# Altium footprint library Capacitor_Ceramic_M5025_I2010.PcbLib: 1 footprints
Each footprint in its own frame and in the unit in brackets; x right, y up, seen from the top. Pads: shape width x height; smd on the part's side, far side on the other; paste and mask are expansions set on the pad; w line width, h text height; cw(c..) or ccw(c..) is an arc to the next point about the centre after c.
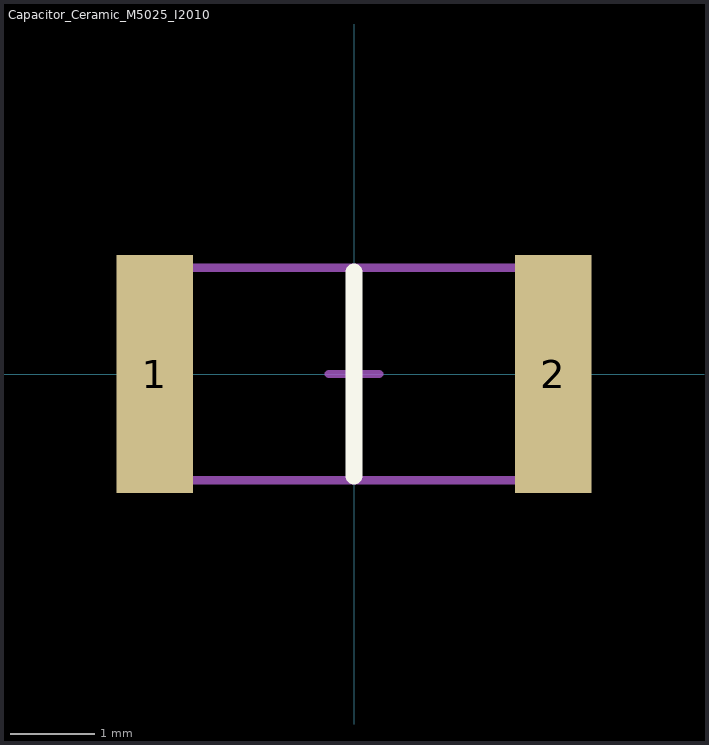
[diagram p0: the footprint, top view; thin cyan lines are the x and y axes]

## Capacitor_Ceramic_M5025_I2010 [mm] "Capacitor_Ceramic_M5025_I2010"
height 0.6
pads (2):
  rect 0.9x2.8 smd mask+0.05: 1(-2.35,0) 2(2.35,0)
Top Overlay:
  lines w0.2: 0,-1.2 0,1.2
Top Assembly:
  lines w0.1: -2.5,-1.25 2.5,-1.25 2.5,1.25 -2.5,1.25 -2.5,-1.25
Top Designator:
  text ".Designator" at -2.6,-2.575 h1.2
Top Component Center:
  lines w0.1: -0.3,0 0.3,0 ; 0,-0.3 0,0.3
3D body "Capacitor_Ceramic_M5025_I2010.step": height 2.51, standoff -0.01, extent -2.74,-1.262 2.74,1.262